# Altium integrated library BMG250.IntLib: 1 symbol
Pins are listed as number, name and electrical type; pins without a type are passive.

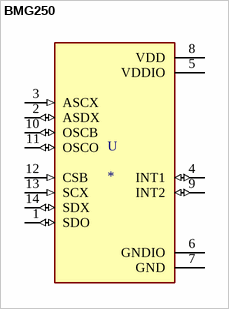
[diagram p0: symbol BMG250]

## BMG250
designator U
Gyroscope X _Pitch_, Y _Roll_, Z _Yaw_ Â±125, 250, 500, 1000, 2000 25Hz ~ 3200Hz IÂ²C, SPI; MP: BMG250; MF: Bosch; SnapEDA_Link: https://www.snapeda.com/parts/BMG250/Bosch%20Sensortec/view-part/627823/?ref=snap; Value: *; Package: LGA-14 Bosch Tools; Price: None; Availability: Unavailable
footprint XDCR_BMG250
pins: 1 SDO (io), 2 ASDX (io), 3 ASCX (in), 4 INT1 (io), 5 VDDIO (power), 6 GNDIO (power), 7 GND (power), 8 VDD (power), 9 INT2 (io), 10 OSCB (io), 11 OSCO (io), 12 CSB (in), 13 SCX (in), 14 SDX (io)